# Altium footprint library pot.PCBLIB: 55 footprints (part 4 of 4)
Each footprint in its own frame and in the unit in brackets; x right, y up, seen from the top. Pads: shape width x height; smd on the part's side, far side on the other; paste and mask are expansions set on the pad; w line width, h text height; cw(c..) or ccw(c..) is an arc to the next point about the centre after c.
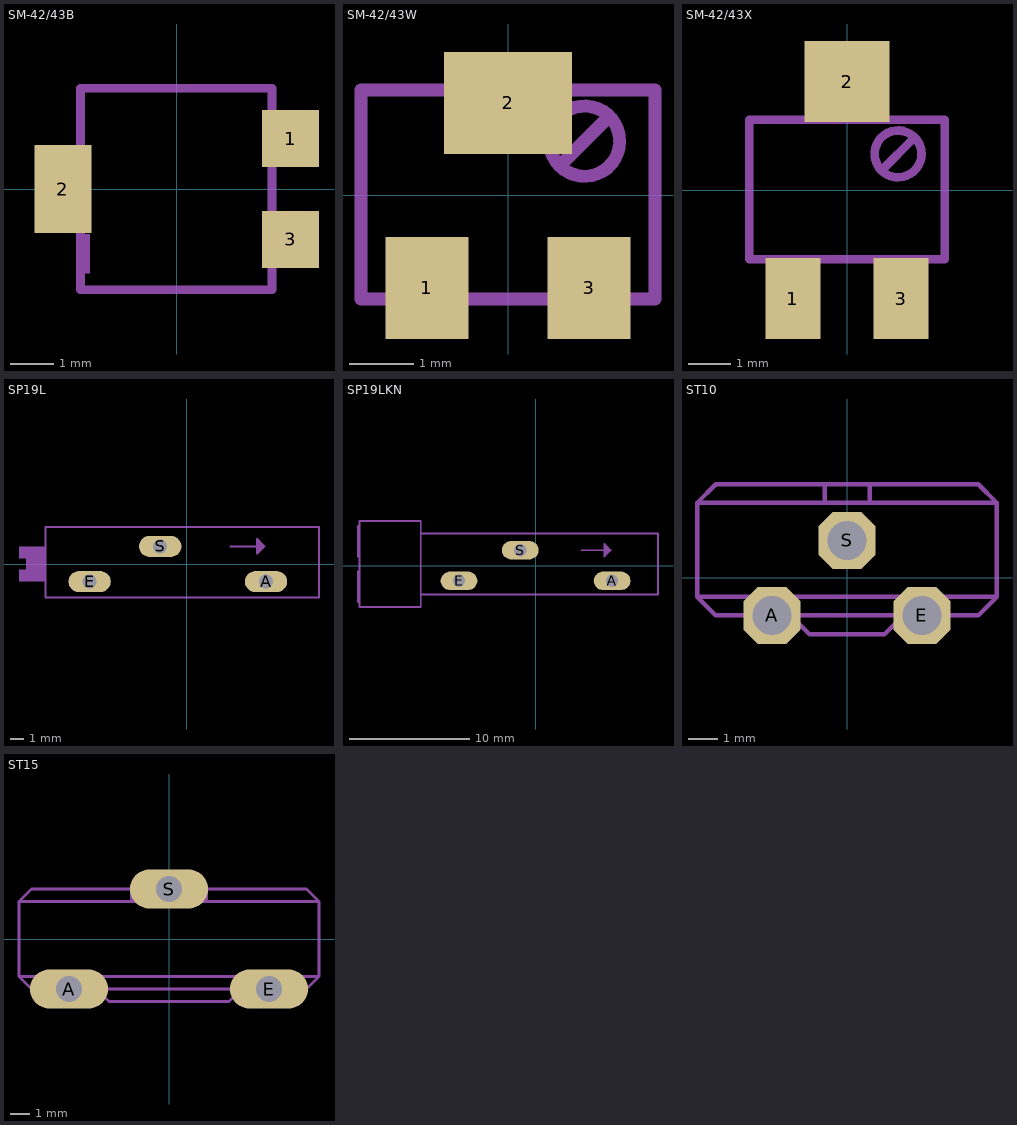
[diagram p3: the footprints below, top view; thin cyan lines are the x and y axes]

## SM-42/43B [mm]
pads (3):
  rect 1.3x1.3 smd: 1(2.6,1.15) 3(2.6,-1.15)
  rect 1.3x2 smd: 2(-2.6,0)
Mechanical 2:
  region: -1.975,-1.925 -1.975,-1.025 -2.3,-1.025 -2.3,-1.925
  lines w0.203: -2.2,-1.2 -2.2,-2.3 2.175,-2.3 ; -2.2,1.2 -2.2,2.3 2.175,2.3
Mechanical 18:
  region: 3,-1.675 3,-0.875 2.2,-0.875 2.2,-1.675
  region: 3,0.875 3,1.675 2.2,1.675 2.2,0.875
  region: -2.2,-0.65 -2.2,0.65 -2.975,0.65 -2.975,-0.65
  lines w0.203: -2.2,-2.3 -2.2,2.3 ; 2.175,-2.3 2.175,2.3

## SM-42/43W [mm]
pads (3):
  rect 1.3x1.6 smd: 1(-1.27,-1.45) 3(1.27,-1.45)
  rect 2x1.6 smd: 2(0,1.45)
Mechanical 2:
  lines w0.203: -2.3,-1.625 -2.3,1.65 -1.2,1.65 ; 1.2,1.65 2.3,1.65 2.3,-1.625
Mechanical 18:
  circle w0.203: c1.2,0.85 r0.55
  rectangle: -1.675,-1.95 -0.875,-1.65
  rectangle: 0.875,-1.95 1.675,-1.65
  rectangle: -0.65,1.65 0.65,1.95
  lines w0.203: -2.3,-1.625 2.3,-1.625 ; -2.3,1.65 2.3,1.65 ; 0.875,0.525 1.525,1.175

## SM-42/43X [mm]
pads (3):
  rect 1.3x1.9 smd: 1(-1.27,-2.55) 3(1.27,-2.55)
  rect 2x1.9 smd: 2(0,2.55)
Mechanical 2:
  circle w0.203: c1.2,0.85 r0.55
  lines w0.203: -2.3,-1.625 -2.3,1.65 -1.2,1.65 ; 0.875,0.525 1.525,1.175 ; 1.2,1.65 2.3,1.65 2.3,-1.625
Mechanical 18:
  rectangle: -1.675,-2.85 -0.875,-1.65
  rectangle: 0.875,-2.85 1.675,-1.65
  rectangle: -0.65,1.65 0.65,2.85
  lines w0.203: -2.3,-1.625 2.3,-1.625 ; -2.3,1.65 2.3,1.65

## SP19L [mil]
pads (3):
  oval 120x60 hole 40: A(225,-50) E(-275,-50) S(-75,50)
Mechanical 2:
  rectangle: -475,-50 -400,-15
  rectangle: -475,15 -400,50
  rectangle: -455,-15 -400,15
  lines w6: 125,50 205,50 ; 205,35 210,40 ; 205,35 205,50 ; 205,35 200,30 200,70 205,65 ; 205,50 220,50 ; 205,50 205,65 ; 205,65 210,60 ; 210,40 210,60 ; 210,40 215,45 ; 210,60 215,55 ; 215,45 220,50 ; 215,45 215,55 ; 215,55 220,50 ; -400,-95 375,-95 375,105 -400,105 -400,-95

## SP19LKN [mil]
pads (3):
  oval 120x60 hole 40: A(250,-50) E(-250,-50) S(-50,50)
Mechanical 2:
  lines w6: 150,50 230,50 ; -575,-120 -575,-20 ; -575,-120 -575,-135 -375,-135 -375,-95 ; -575,-120 -580,-120 -580,-20 -575,-20 ; -575,-20 -575,30 ; -575,30 -575,130 ; -575,30 -580,30 -580,130 -575,130 ; -575,130 -575,145 -375,145 -375,105 ; -375,-95 400,-95 400,105 -375,105 ; -375,-95 -375,105 ; 230,35 235,40 ; 230,35 230,50 ; 230,35 225,30 225,70 230,65 ; 230,50 245,50 ; 230,50 230,65 ; 230,65 235,60 ; 235,40 235,60 ; 235,40 240,45 ; 235,60 240,55 ; 240,45 245,50 ; 240,45 240,55 ; 240,55 245,50

## ST10 [mil]
pads (3):
  oct 75.52x75.52 hole 52: A(-100,-50) E(100,-50) S(0,50)
Mechanical 2:
  lines w6: -155,-50 -175,-50 -200,-25 ; -155,-25 -200,-25 ; -45,-75 45,-75 ; -45,-50 45,-50 ; -45,-25 45,-25 ; 155,-50 175,-50 200,-25 ; 155,-25 200,-25 ; -200,-25 -200,100 ; -200,100 -175,125 -30,125 ; -200,100 -30,100 -30,125 ; -30,125 30,125 ; 30,125 30,100 200,100 ; 30,125 175,125 200,100 ; 200,-25 200,100
Mechanical 18:
  lines w6: -155,-50 -75,-50 ; -155,-25 -45,-25 ; -45,-75 -50,-75 -75,-50 ; -45,-50 -75,-50 ; -30,100 30,100 ; 45,-75 50,-75 75,-50 ; 45,-50 75,-50 ; 45,-25 155,-25 ; 155,-50 75,-50

## ST15 [mil]
pads (3):
  oval 156x78 hole 52: A(-200,-100) E(200,-100) S(0,100)
Mechanical 2:
  lines w6: -255,-100 -275,-100 -300,-75 ; -255,-75 -300,-75 ; -145,-75 145,-75 ; -55,75 -75,75 ; -55,100 -75,100 ; 55,75 75,75 ; 55,100 75,100 ; 255,-100 275,-100 300,-75 ; 255,-75 300,-75 ; -300,-75 -300,75 ; -300,75 -275,100 -75,100 ; -300,75 -75,75 ; -75,75 -75,100 ; 75,75 300,75 ; 75,75 75,100 ; 75,100 275,100 300,75 ; 300,-75 300,75 ; -145,-100 -120,-125 120,-125 145,-100 -145,-100
Mechanical 18:
  lines w6: -255,-100 -145,-100 ; -255,-75 -145,-75 ; -75,75 75,75 ; -75,100 75,100 ; 145,-100 255,-100 ; 145,-75 255,-75